# Altium schematic symbol library NCR321PASX.SchLib: 1 symbol
Pins are listed as number, name and electrical type; pins without a type are passive.

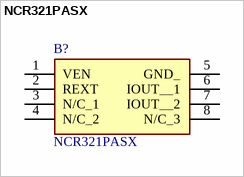
[diagram p0: symbol NCR321PASX]

## NCR321PASX
designator B?
LED Driver IC 1 Output Linear Constant Current PWM Dimming 250mA DFN2020D-6; Manufacturer_Name: Nexperia; Geometry.Height: 0.65mm; RS Part Number: *; RS Price/Stock: *; Manufacturer_Part_Number: NCR321PASX; Datasheet Link: https://assets.nexperia.com/documents/data-sheet/NCR320PAS_NCR321PAS.pdf
footprint NCR321PASX
pins: 1 VEN, 2 REXT, 3 N/C_1, 4 N/C_2, 5 GND_, 6 IOUT__1, 7 IOUT__2, 8 N/C_3